# Altium schematic symbol library tps79933qddcrq1.SchLib: 1 symbol
Pins are listed as number, name and electrical type; pins without a type are passive.

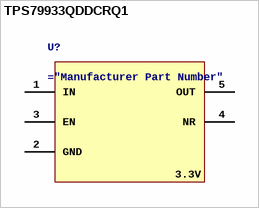
[diagram p0: symbol TPS79933QDDCRQ1]

## TPS79933QDDCRQ1
designator U?
Fixed Positive LDO Regulator, 3.3V, 0.16V Dropout, BICMOS, PDSO5
pins: 1 IN, 2 GND, 3 EN, 4 NR, 5 OUT
text: 3.3V